# EAGLE library part 693022010811 (library WR-CRD)
WR-CRD Micro SIM Card Connector Hinge Type KIND PROPERTIES Quality Class:2 500 Mating cycles Gender:Socket Type:Hinge General Information Operating Temperature:-25 up to +85 °C Compliance:RoHS Electrical Properties IR 1:1 A Working Voltage:15 V (AC) Withstanding Voltage:500 V (AC) Contact Resistance:30mΩ Material Properties Insulator MateriaL:LCP Insulator Flammability Rating:UL94 V-0 Color:Black Contact Material:Copper Alloy Contact Plating:Selective Gold Contact Type:Stamped Shielding Material:Stainless Steel Shielding Plating:Nickel <https://www.we-online.com/components/media/o33064v209%20Family_WR-CRD_Micro_SIM_Hinge_8Pins_693022010811.jpg> Details see: www.we-online.com/en/components/products/CRD_MICRO_SIM Updated by Ella Wu 2021-05-27 2021 (C) Würth Elektronik
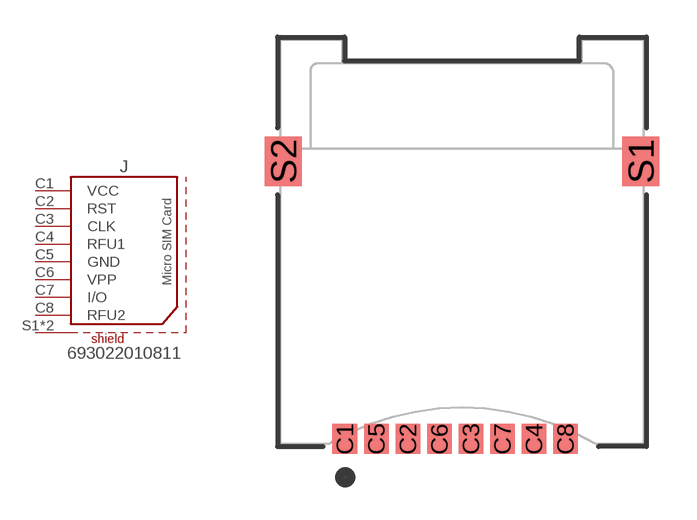
[diagram p11: symbol with the pads of 693022010811; footprint 693022010811]

Designator prefix J

## 693022010811 (DATASHEET-URL: https://www.we-online.com/redexpert/spec/693022010811?ae; GERDER: Socket; IR: 1A; MOUNT: SMT; PART-NUMBER: 693022010811; PINS: 8; TYPE: Hinge; VALUE: 693022010811; WORKING-VOLTAGE: 30V(AC))  [693022010811]
C1  VCC
C2  RST
C3  CLK
C4  RFU1
C5  GND
C6  VPP
C7  I/O
C8  RFU2
S1  SHIELD
S2  SHIELD

## Footprint 693022010811 (pad centres in mm)
WR-CRD Micro SIM Card Connector Hinge Type
smd 1 x 1.2: C1 -4.72,-7.95; C2 -2.18,-7.95; C3 0.36,-7.95; C4 2.9,-7.95; C5 -3.45,-7.95; C6 -0.91,-7.95; C7 1.63,-7.95; C8 4.17,-7.95
smd 1.5 x 2: S1 7.2,3.25; S2 -7.2,3.25